# EAGLE library part ZXMHC3F381N8 (library Neel)
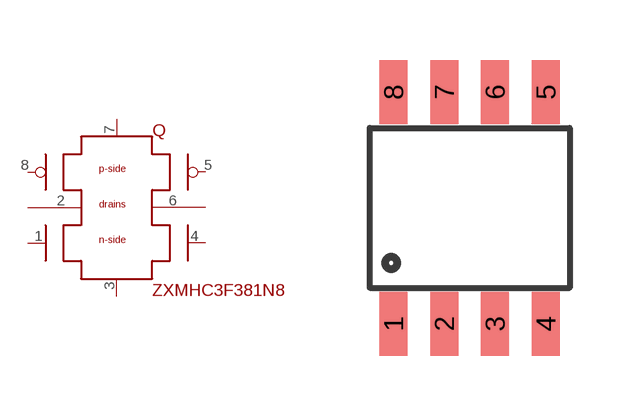
[diagram p30: symbol with the pads of SO-8; footprint SO-8]

Designator prefix Q

## ZXMHC3F381N8  [SO-8]
1  N1G
2  P1N1D
3  N1N2S
4  N2G
5  P2G
6  P2N2D
7  P1P2S
8  P1G

## Footprint SO-8 (pad centres in mm)
smd 0.7 x 1.6: 1 -1.905,-2.9; 2 -0.635,-2.9; 3 0.635,-2.9; 4 1.905,-2.9; 5 1.905,2.9; 6 0.635,2.9; 7 -0.635,2.9; 8 -1.905,2.9